# EAGLE library part NETWORK_CONTROLLER (library msut_zadaca3)
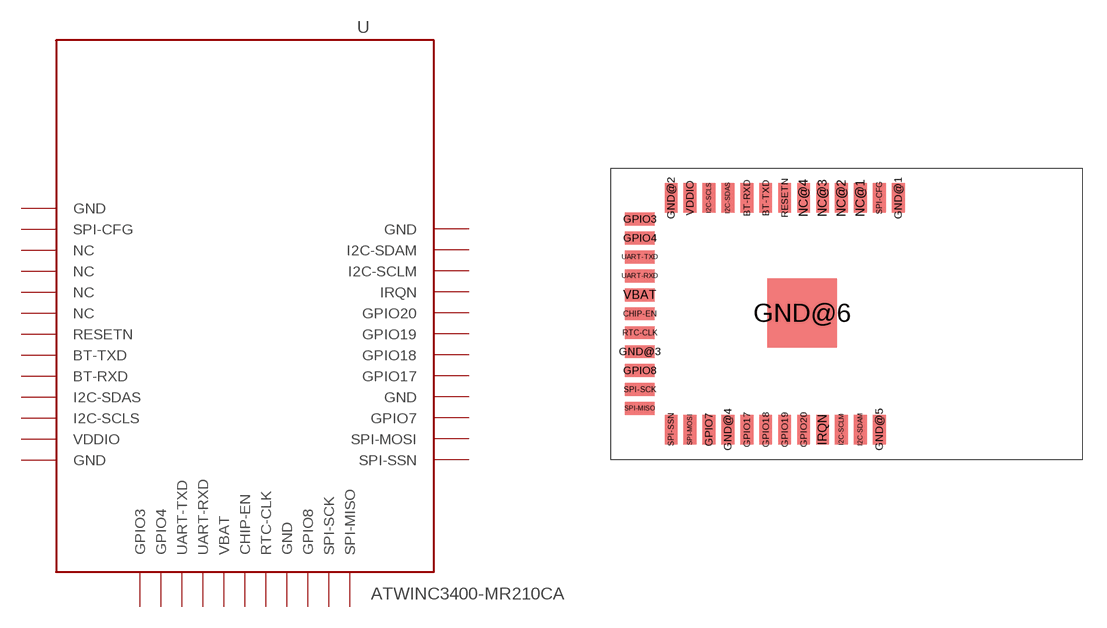
[diagram p0: symbol with the pads of PACKAGE_ATWINC3400-MR210XA; footprint PACKAGE_ATWINC3400-MR210XA]

Designator prefix U

## NETWORK_CONTROLLER  [PACKAGE_ATWINC3400-MR210XA]
BT-RXD  BT-RXD
BT-TXD  BT-TXD
CHIP-EN  CHIP-EN
GND@1  GND
GND@2  GND
GND@3  GND
GND@4  GND
GND@5  GND
GND@6  GND
GPIO3  GPIO3
GPIO4  GPIO4
GPIO7  GPIO7
GPIO8  GPIO8
GPIO17  GPIO17
GPIO18  GPIO18
GPIO19  GPIO19
GPIO20  GPIO20
I2C-SCLM  I2C-SCLM
I2C-SCLS  I2C-SCLS
I2C-SDAM  I2C-SDAM
I2C-SDAS  I2C-SDAS
IRQN  IRQN
NC@1  NC
NC@2  NC
NC@3  NC
NC@4  NC
RESETN  RESETN
RTC-CLK  RTC-CLK
SPI-CFG  SPI-CFG
SPI-MISO  SPI-MISO
SPI-MOSI  SPI-MOSI
SPI-SCK  SPI-SCK
SPI-SSN  SPI-SSN
UART-RXD  UART-RXD
UART-TXD  UART-TXD
VBAT  VBAT
VDDIO  VDDIO

## Footprint PACKAGE_ATWINC3400-MR210XA (pad centres in mm)
smd 0.813 x 1.88: BT-RXD 4.816,0; BT-TXD 6.02,0; GND@1 14.448,0; GND@2 0,0; GND@4 3.612,-14.732; GND@5 13.244,-14.732; GPIO7 2.408,-14.732; GPIO17 4.816,-14.732; GPIO18 6.02,-14.732; GPIO19 7.224,-14.732; GPIO20 8.428,-14.732; I2C-SCLM 10.836,-14.732; I2C-SCLS 2.408,0; I2C-SDAM 12.04,-14.732; I2C-SDAS 3.612,0; IRQN 9.632,-14.732; NC@1 12.04,0; NC@2 10.836,0; NC@3 9.632,0; NC@4 8.428,0; RESETN 7.224,0; SPI-CFG 13.244,0; SPI-MOSI 1.204,-14.732; SPI-SSN 0,-14.732; VDDIO 1.204,0
smd 1.88 x 0.813: CHIP-EN -1.985,-7.367; GND@3 -1.985,-9.775; GPIO3 -1.985,-1.347; GPIO4 -1.985,-2.55; GPIO8 -1.985,-10.979; RTC-CLK -1.985,-8.572; SPI-MISO -1.985,-13.387; SPI-SCK -1.985,-12.184; UART-RXD -1.985,-4.96; UART-TXD -1.985,-3.756; VBAT -1.985,-6.163
smd 4.4 x 4.4: GND@6 8.328,-7.318